# Altium schematic symbol library LPC6-1776.SCHLIB: 1 symbol
Pins are listed as number, name and electrical type; pins without a type are passive.

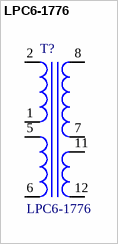
[diagram p0: symbol LPC6-1776]

## LPC6-1776
designator T?
Auto Transformer; Manufacturer: PC Transformer Corp.; Value: P115/240 - S240/8.6; Manufacturer P/N: LPC6-1776; Package: Low Profile Power; Type: Auto Transformer
footprint LPC6-1776
pins: 1 Pri1-, 2 Pri1+, 5 Pri2+, 6 Pri2-, 7 Sec1-, 8 Sec1+, 11 Sec2+, 12 Sec2-